# Altium schematic symbol library SCH - DRIVER - LED - TI TPS61097A-33DBV.SchLib: 1 symbol
Pins are listed as number, name and electrical type; pins without a type are passive.

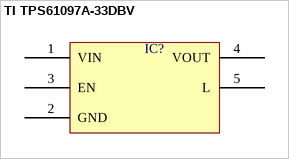
[diagram p0: symbol TI TPS61097A-33DBV]

## TI TPS61097A-33DBV
designator IC?  (value not drawn)
pins: 1 VIN, 2 GND, 3 EN, 4 VOUT, 5 L